# Altium footprint library IC-Standard.PcbLib: 13 footprints
Each footprint in its own frame and in the unit in brackets; x right, y up, seen from the top. Pads: shape width x height; smd on the part's side, far side on the other; paste and mask are expansions set on the pad; w line width, h text height; cw(c..) or ccw(c..) is an arc to the next point about the centre after c.
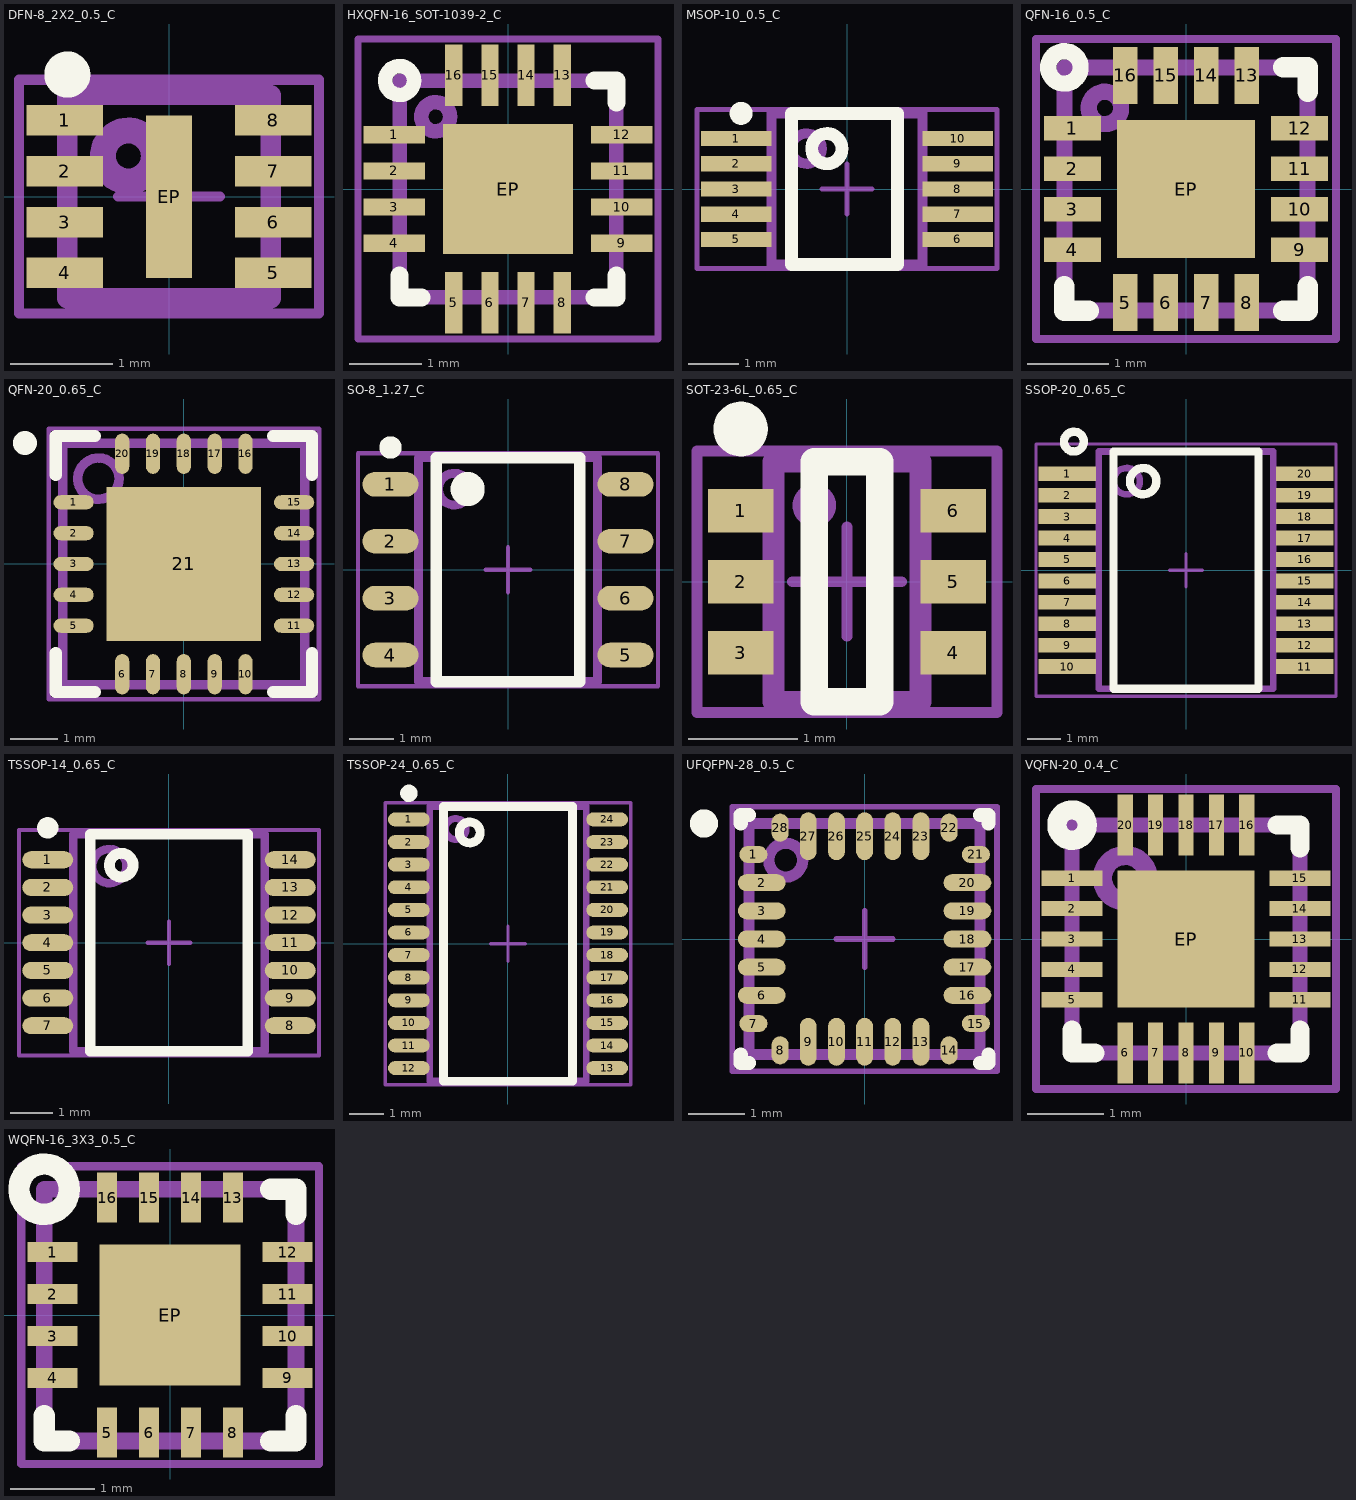
[diagram p0: the footprints below, top view; thin cyan lines are the x and y axes]

## DFN-8_2X2_0.5_C [mm]
pads (9):
  rect 0.75x0.3 smd: 1(-1.025,0.75) 2(-1.025,0.25) 3(-1.025,-0.25) 4(-1.025,-0.75) 5(1.025,-0.75) 6(1.025,-0.25) 7(1.025,0.25) 8(1.025,0.75)
  rect 0.45x1.6 smd: EP(0,0)
Top Overlay:
  circle w0.254: c-1,1.2 r0.1
Top Assembly:
  circle w0.254: c-0.4,0.4 r0.25
  lines w0.2: -1,-1 -1,1 1,1 1,-1 -1,-1
Top Designator:
  text ".Designator" at -1.623,1.479 h1
Top Courtyard (Mech15):
  lines w0.1: -0.5,0 0.5,0 ; 0,-0.5 0,0.5 ; -1.475,-1.15 -1.475,1.15 1.475,1.15 1.475,-1.15 -1.475,-1.15
3D body: height 0.6, standoff 0, extent -1,-1 1,1

## HXQFN-16_SOT-1039-2_C [mm] "HXQFN16 (U) plastic thermal enhanced extremely thin quad  flat package; no leads; 16 terminals, 0.5 mm pitch, 3 mm x 3  mm x 0.5 mm body"
pads (17):
  rect 0.85x0.24 smd paste-0.012: 1(-1.575,0.75) 2(-1.575,0.25) 3(-1.575,-0.25) 4(-1.575,-0.75) 9(1.575,-0.75) 10(1.575,-0.25) 11(1.575,0.25) 12(1.575,0.75)
  rect 0.24x0.85 smd paste-0.012: 5(-0.75,-1.575) 6(-0.25,-1.575) 7(0.25,-1.575) 8(0.75,-1.575) 13(0.75,1.575) 14(0.25,1.575) 15(-0.25,1.575) 16(-0.75,1.575)
  rect 1.8x1.8 smd paste-0.5: EP(0,0)
Top Overlay:
  circle w0.2: c-1.5,1.5 r0.2
  lines w0.254: -1.5,-1.2 -1.5,-1.5 -1.2,-1.5 ; 1.2,-1.5 1.5,-1.5 1.5,-1.2 ; 1.2,1.5 1.5,1.5 1.5,1.2
Top Assembly:
  circle w0.2: c-1,1 r0.2
  lines w0.2: -1.5,-1.5 -1.5,1.5 1.5,1.5 1.5,-1.5 -1.5,-1.5
Top Designator:
  text ".Designator" at -1.123,-0.521 h1
Top Courtyard (Mech15):
  lines w0.1: -0.5,0 0.5,0 ; 0,-0.5 0,0.5 ; -2.075,-2.075 2.075,-2.075 2.075,2.075 -2.075,2.075 -2.075,-2.075
3D body: height 0.5, standoff 0, extent -1.5,-1.5 1.5,1.5

## MSOP-10_0.5_C [mm]
height 1.1
pads (10):
  rect 1.4x0.3 smd: 1(-2.2,1) 2(-2.2,0.5) 3(-2.2,0) 4(-2.2,-0.5) 5(-2.2,-1) 6(2.2,-1) 7(2.2,-0.5) 8(2.2,0) 9(2.2,0.5) 10(2.2,1)
Top Overlay:
  circle w0.254: c-2.1,1.5 r0.1
  circle w0.254: c-0.4,0.8 r0.3
  lines w0.254: -1.1,-1.5 -1.1,1.5 1,1.5 1,-1.5 -1.1,-1.5
Top Assembly:
  circle w0.2: c-0.8,0.8 r0.3
  lines w0.2: -1.5,-1.5 1.5,-1.5 1.5,1.5 -1.5,1.5 -1.5,-1.5
Top Designator:
  text ".Designator" at -1.123,-0.521 h1
Top Courtyard (Mech15):
  lines w0.1: -0.5,0 0.5,0 ; 0,-0.5 0,0.5 ; -2.975,-1.575 -2.975,1.575 2.975,1.575 2.975,-1.575 -2.975,-1.575
3D body: height 1.1, standoff 0, extent -1.5,-1.5 1.5,1.5

## QFN-16_0.5_C [mm]
pads (17):
  rect 0.7x0.3 smd: 1(-1.4,0.75) 2(-1.4,0.25) 3(-1.4,-0.25) 4(-1.4,-0.75) 9(1.4,-0.75) 10(1.4,-0.25) 11(1.4,0.25) 12(1.4,0.75)
  rect 0.3x0.7 smd: 5(-0.75,-1.4) 6(-0.25,-1.4) 7(0.25,-1.4) 8(0.75,-1.4) 13(0.75,1.4) 14(0.25,1.4) 15(-0.25,1.4) 16(-0.75,1.4)
  rect 1.7x1.7 smd: EP(0,0)
Top Overlay:
  circle w0.2: c-1.5,1.5 r0.2
  lines w0.254: -1.5,-1.2 -1.5,-1.5 -1.2,-1.5 ; 1.2,-1.5 1.5,-1.5 1.5,-1.2 ; 1.2,1.5 1.5,1.5 1.5,1.2
Top Assembly:
  circle w0.2: c-1,1 r0.2
  lines w0.2: -1.5,-1.5 -1.5,1.5 1.5,1.5 1.5,-1.5 -1.5,-1.5
Top Designator:
  text ".Designator" at -0.3,-0.467 h1
Top Courtyard (Mech15):
  lines w0.1: -0.5,0 0.5,0 ; 0,-0.5 0,0.5 ; -1.85,-1.85 1.85,-1.85 1.85,1.85 -1.85,1.85 -1.85,-1.85
3D body: height 1, standoff 0, extent -1.5,-1.5 1.5,1.5

## QFN-20_0.65_C [mm] "QFN, 20-Leads, Body 5.00x5.00mm, Pitch 0.65mm, Thermal Pad 3.25x3.25mm, IPC High Density"
height 1
pads (21):
  oval 0.85x0.3 smd: 1(-2.325,1.3) 2(-2.325,0.65) 3(-2.325,0) 4(-2.325,-0.65) 5(-2.325,-1.3) 11(2.325,-1.3) 12(2.325,-0.65) 13(2.325,0) 14(2.325,0.65) 15(2.325,1.3)
  oval 0.3x0.85 smd: 6(-1.3,-2.325) 7(-0.65,-2.325) 8(0,-2.325) 9(0.65,-2.325) 10(1.3,-2.325) 16(1.3,2.325) 17(0.65,2.325) 18(0,2.325) 19(-0.65,2.325) 20(-1.3,2.325)
  rect 3.25x3.25 smd: 21(0,0)
Top Overlay:
  circle w0.254: c-3.35,2.55 r0.125
  lines w0.254: -2.7,-1.877 -2.7,-2.7 -1.877,-2.7 ; -2.7,1.877 -2.7,2.7 -1.877,2.7 ; 1.877,-2.7 2.7,-2.7 2.7,-1.877 ; 1.877,2.7 2.7,2.7 2.7,1.877
Top Assembly:
  circle w0.2: c-1.8,1.8 r0.435
  lines w0.2: -2.55,-2.55 -2.55,2.55 2.55,2.55 2.55,-2.55 -2.55,-2.55
Top Designator:
  text ".Designator" at -1.4,-0.467 h1
Top Courtyard (Mech15):
  lines w0.1: -0.5,0 0.5,0 ; 0,-0.5 0,0.5 ; -2.85,-2.85 -2.85,2.85 2.85,2.85 2.85,-2.85 -2.85,-2.85
3D body: height 1, standoff 0.05, extent -2.55,-2.55 2.55,2.55

## SO-8_1.27_C [mm] "SOIC, 8-Leads, Body 4,90x3,90mm, Pitch 1,27mm, IPC High Density"
height 1.75
pads (8):
  oval 1.25x0.55 smd: 1(-2.625,1.905) 2(-2.625,0.635) 3(-2.625,-0.635) 4(-2.625,-1.905) 5(2.625,-1.905) 6(2.625,-0.635) 7(2.625,0.635) 8(2.625,1.905)
Top Overlay:
  circle w0.6: c-0.9,1.8 r0.08
  circle w0.25: c-2.625,2.73 r0.125
  lines w0.254: -1.6,-2.5 1.6,-2.5 1.6,2.5 -1.6,2.5 -1.6,-2.5
Top Assembly:
  circle w0.2: c-1.2,1.8 r0.354
  lines w0.2: -2,-2.5 2,-2.5 2,2.5 -2,2.5 -2,-2.5
Top Designator:
  text ".Designator" at -1.4,-0.467 h1
Top Courtyard (Mech15):
  lines w0.1: -0.5,0 0.5,0 ; 0,-0.5 0,0.5 ; -3.35,-2.6 3.35,-2.6 3.35,2.6 -3.35,2.6 -3.35,-2.6
3D body: height 1.75, standoff 0.1, extent -2,-2.5 2,2.5

## SOT-23-6L_0.65_C [mm] "SOT23, 6-Leads, Body 2.00x2.10mm, Pitch 0.65mm, IPC High Density"
height 1.1
pads (6):
  rect 0.6x0.4 smd: 1(-0.975,0.65) 2(-0.975,0) 3(-0.975,-0.65) 4(0.975,-0.65) 5(0.975,0) 6(0.975,0.65)
Top Overlay:
  circle w0.25: c-0.975,1.4 r0.125
  lines w0.254: -0.3,-1.1 0.3,-1.1 0.3,1.1 -0.3,1.1 -0.3,-1.1
Top Assembly:
  circle w0.2: c-0.3,0.7 r0.1
  lines w0.2: -0.675,-1.1 -0.675,1.1 0.675,1.1 0.675,-1.1 -0.675,-1.1
Top Designator:
  text ".Designator" at -0.646,1.521 h0.8
Top Courtyard (Mech15):
  lines w0.1: -0.5,0 0.5,0 ; 0,-0.5 0,0.5 ; -1.375,-1.2 -1.375,1.2 1.375,1.2 1.375,-1.2 -1.375,-1.2
3D body: height 1.1, standoff 0.1, extent -0.675,-1.1 0.675,1.1

## SSOP-20_0.65_C [mm]
pads (20):
  rect 1.75x0.45 smd: 1(-3.6,2.925) 2(-3.6,2.275) 3(-3.6,1.625) 4(-3.6,0.975) 5(-3.6,0.325) 6(-3.6,-0.325) 7(-3.6,-0.975) 8(-3.6,-1.625) 9(-3.6,-2.275) 10(-3.6,-2.925) 11(3.6,-2.925) 12(3.6,-2.275) 13(3.6,-1.625) 14(3.6,-0.975) 15(3.6,-0.325) 16(3.6,0.325) 17(3.6,0.975) 18(3.6,1.625) 19(3.6,2.275) 20(3.6,2.925)
Top Overlay:
  circle w0.254: c-3.4,3.9 r0.3
  circle w0.254: c-1.3,2.7 r0.4
  lines w0.254: -2.2,-3.6 2.2,-3.6 2.2,3.6 -2.2,3.6 -2.2,-3.6
Top Assembly:
  circle w0.2: c-1.8,2.7 r0.4
  lines w0.2: -2.65,-3.6 2.65,-3.6 2.65,3.6 -2.65,3.6 -2.65,-3.6
Top Designator:
  text ".Designator" at -1.324,-0.483 h1
Top Courtyard (Mech15):
  lines w0.1: -0.5,0 0.5,0 ; 0,-0.5 0,0.5 ; -4.55,-3.825 4.55,-3.825 4.55,3.825 -4.55,3.825 -4.55,-3.825

## TSSOP-14_0.65_C [mm] "TSOP, 14-Leads, Body 5.00x4.40mm, Pitch 0.65mm, IPC High Density"
height 1.2
pads (14):
  oval 1.2x0.4 smd: 1(-2.85,1.95) 2(-2.85,1.3) 3(-2.85,0.65) 4(-2.85,0) 5(-2.85,-0.65) 6(-2.85,-1.3) 7(-2.85,-1.95) 8(2.85,-1.95) 9(2.85,-1.3) 10(2.85,-0.65) 11(2.85,0) 12(2.85,0.65) 13(2.85,1.3) 14(2.85,1.95)
Top Overlay:
  circle w0.254: c-1.123,1.823 r0.278
  circle w0.25: c-2.85,2.7 r0.125
  lines w0.254: -1.85,-2.55 1.85,-2.55 1.85,2.55 -1.85,2.55 -1.85,-2.55
Top Assembly:
  circle w0.2: c-1.4,1.8 r0.4
  lines w0.2: -2.25,-2.55 2.25,-2.55 2.25,2.55 -2.25,2.55 -2.25,-2.55
Top Designator:
  text ".Designator" at -1.324,-0.483 h1
Top Courtyard (Mech15):
  lines w0.1: -0.5,0 0.5,0 ; 0,-0.5 0,0.5 ; -3.525,-2.65 3.525,-2.65 3.525,2.65 -3.525,2.65 -3.525,-2.65
3D body: height 1.2, standoff 0.05, extent -2.25,-2.55 2.25,2.55

## TSSOP-24_0.65_C [mm] "TSOP, 24-Leads, Body 7.80x4.40mm, Pitch 0.65mm, IPC High Density"
height 1.2
pads (24):
  oval 1.2x0.4 smd: 1(-2.85,3.575) 2(-2.85,2.925) 3(-2.85,2.275) 4(-2.85,1.625) 5(-2.85,0.975) 6(-2.85,0.325) 7(-2.85,-0.325) 8(-2.85,-0.975) 9(-2.85,-1.625) 10(-2.85,-2.275) 11(-2.85,-2.925) 12(-2.85,-3.575) 13(2.85,-3.575) 14(2.85,-2.925) 15(2.85,-2.275) 16(2.85,-1.625) 17(2.85,-0.975) 18(2.85,-0.325) 19(2.85,0.325) 20(2.85,0.975) 21(2.85,1.625) 22(2.85,2.275) 23(2.85,2.925) 24(2.85,3.575)
Top Overlay:
  circle w0.25: c-2.85,4.325 r0.125
  circle w0.254: c-1.1,3.2 r0.3
  lines w0.254: -1.85,-3.95 -1.85,3.95 1.85,3.95 1.85,-3.95 -1.85,-3.95
Top Assembly:
  circle w0.2: c-1.5,3.3 r0.3
  lines w0.2: -2.25,-3.95 -2.25,3.95 2.25,3.95 2.25,-3.95 -2.25,-3.95
Top Designator:
  text ".Designator" at -1.146,-0.279 h0.8
Top Courtyard (Mech15):
  lines w0.1: -0.5,0 0.5,0 ; 0,-0.5 0,0.5 ; -3.525,-4.05 -3.525,4.05 3.525,4.05 3.525,-4.05 -3.525,-4.05
3D body: height 1.2, standoff 0.05, extent -2.25,-3.95 2.25,3.95

## UFQFPN-28_0.5_C [mm] "QFN, 28-Leads, Body 4.00x4.00mm, Pitch 0.50mm, IPC High Density"
height 0.6
pads (28):
  oval 0.5x0.3 smd: 1(-1.975,1.5) 7(-1.975,-1.5) 15(1.975,-1.5) 21(1.975,1.5)
  oval 0.85x0.3 smd: 2(-1.825,1) 3(-1.825,0.5) 4(-1.825,0) 5(-1.825,-0.5) 6(-1.825,-1) 16(1.825,-1) 17(1.825,-0.5) 18(1.825,0) 19(1.825,0.5) 20(1.825,1)
  oval 0.3x0.5 smd: 8(-1.5,-1.975) 14(1.5,-1.975) 22(1.5,1.975) 28(-1.5,1.975)
  oval 0.3x0.85 smd: 9(-1,-1.825) 10(-0.5,-1.825) 11(0,-1.825) 12(0.5,-1.825) 13(1,-1.825) 23(1,1.825) 24(0.5,1.825) 25(0,1.825) 26(-0.5,1.825) 27(-1,1.825)
Top Overlay:
  circle w0.25: c-2.85,2.05 r0.125
  lines w0.254: -2.2,-2.052 -2.2,-2.2 -2.052,-2.2 ; -2.2,2.052 -2.2,2.2 -2.052,2.2 ; 2.052,-2.2 2.2,-2.2 2.2,-2.052 ; 2.052,2.2 2.2,2.2 2.2,2.052
Top Assembly:
  circle w0.2: c-1.4,1.4 r0.3
  lines w0.2: -2.05,-2.05 2.05,-2.05 2.05,2.05 -2.05,2.05 -2.05,-2.05
Top Designator:
  text ".Designator" at -1.146,-0.413 h1
Top Courtyard (Mech15):
  lines w0.1: -0.5,0 0.5,0 ; 0,-0.5 0,0.5 ; -2.35,-2.35 2.35,-2.35 2.35,2.35 -2.35,2.35 -2.35,-2.35
3D body: height 0.6, standoff 0.05, extent -2.05,-2.05 2.05,2.05

## VQFN-20_0.4_C [mm]
pads (21):
  rect 0.8x0.2 smd: 1(-1.5,0.8) 2(-1.5,0.4) 3(-1.5,0) 4(-1.5,-0.4) 5(-1.5,-0.8) 11(1.5,-0.8) 12(1.5,-0.4) 13(1.5,0) 14(1.5,0.4) 15(1.5,0.8)
  rect 0.2x0.8 smd: 6(-0.8,-1.5) 7(-0.4,-1.5) 8(0,-1.5) 9(0.4,-1.5) 10(0.8,-1.5) 16(0.8,1.5) 17(0.4,1.5) 18(0,1.5) 19(-0.4,1.5) 20(-0.8,1.5)
  rect 1.8x1.8 smd: EP(0,0)
Top Overlay:
  circle w0.254: c-1.5,1.5 r0.2
  lines w0.254: -1.5,-1.2 -1.5,-1.5 -1.2,-1.5 ; 1.2,-1.5 1.5,-1.5 1.5,-1.2 ; 1.2,1.5 1.5,1.5 1.5,1.2
Top Assembly:
  circle w0.254: c-0.8,0.8 r0.3
  lines w0.2: -1.5,-1.5 1.5,-1.5 1.5,1.5 -1.5,1.5 -1.5,-1.5
Top Designator:
  text ".Designator" at -0.646,-0.413 h1
Top Courtyard (Mech15):
  lines w0.1: -0.5,0 0.5,0 ; 0,-0.5 0,0.5 ; -1.975,-1.975 -1.975,1.975 1.975,1.975 1.975,-1.975 -1.975,-1.975
3D body: height 0.9, standoff 0, extent -1.5,-1.5 1.5,1.5

## WQFN-16_3X3_0.5_C [mm]
height 0.8
pads (17):
  rect 0.6x0.24 smd: 1(-1.4,0.75) 2(-1.4,0.25) 3(-1.4,-0.25) 4(-1.4,-0.75) 9(1.4,-0.75) 10(1.4,-0.25) 11(1.4,0.25) 12(1.4,0.75)
  rect 0.24x0.6 smd: 5(-0.75,-1.4) 6(-0.25,-1.4) 7(0.25,-1.4) 8(0.75,-1.4) 13(0.75,1.4) 14(0.25,1.4) 15(-0.25,1.4) 16(-0.75,1.4)
  rect 1.68x1.68 smd paste-0.065: EP(0,0)
Top Overlay:
  circle w0.254: c-1.5,1.5 r0.3
  lines w0.254: -1.5,-1.2 -1.5,-1.5 -1.2,-1.5 ; 1.2,-1.5 1.5,-1.5 1.5,-1.2 ; 1.2,1.5 1.5,1.5 1.5,1.2
Top Assembly:
  lines w0.2: -1.5,-1.5 -1.5,1.5 1.5,1.5 1.5,-1.5 -1.5,-1.5
Top Designator:
  text ".Designator" at -0.3,-0.467 h1
Top Courtyard (Mech15):
  lines w0.1: -0.5,0 0.5,0 ; 0,-0.5 0,0.5 ; -1.775,-1.775 -1.775,1.775 1.775,1.775 1.775,-1.775 -1.775,-1.775
3D body: height 0.8, standoff 0, extent -1.5,-1.5 1.5,1.5